# EAGLE library part 74LVC827A (library lupa300-components)
Buffer, Non-Inverting 1 Element 10 Bit per Element Push-Pull Output 24-TSSOP
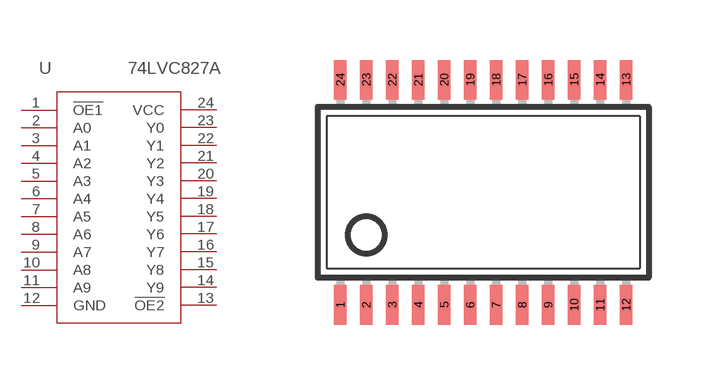
[diagram p2: symbol with the pads of TSSOP24; footprint TSSOP24]

Designator prefix -

## 74LVC827A  [TSSOP24]
1  !OE1
2  A0
3  A1
4  A2
5  A3
6  A4
7  A5
8  A6
9  A7
10  A8
11  A9
12  GND
13  !OE2
14  Y9
15  Y8
16  Y7
17  Y6
18  Y5
19  Y4
20  Y3
21  Y2
22  Y1
23  Y0
24  VCC

## Footprint TSSOP24 (pad centres in mm)
Thin Shrink Small Outline Plastic 24 Source: http://www.lsicsi.com/pdfs/Drawings/TSSOP_OD.pdf
smd 0.305 x 0.991: 1 -3.575,-2.818; 2 -2.925,-2.818; 3 -2.275,-2.818; 4 -1.625,-2.818; 5 -0.975,-2.818; 6 -0.325,-2.818; 7 0.325,-2.818; 8 0.975,-2.818; 9 1.625,-2.818; 10 2.275,-2.818; 11 2.925,-2.818; 12 3.575,-2.818; 13 3.575,2.818; 14 2.925,2.818; 15 2.275,2.818; 16 1.625,2.818; 17 0.975,2.818; 18 0.325,2.818; 19 -0.325,2.818; 20 -0.975,2.818; 21 -1.625,2.818; 22 -2.275,2.818; 23 -2.925,2.818; 24 -3.575,2.818